# Altium schematic symbol library Transistors-PNP.Schlib: 1 symbol
Pins are listed as number, name and electrical type; pins without a type are passive.

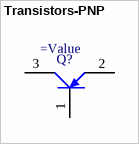
[diagram p0: symbol Transistors-PNP]

## Transistors-PNP
designator Q?
=Description
pins: 1 B, 2 E, 3 C